# Altium footprint library 71-5_90.PcbLib: 1 footprints
Each footprint in its own frame and in the unit in brackets; x right, y up, seen from the top. Pads: shape width x height; smd on the part's side, far side on the other; paste and mask are expansions set on the pad; w line width, h text height; cw(c..) or ccw(c..) is an arc to the next point about the centre after c.
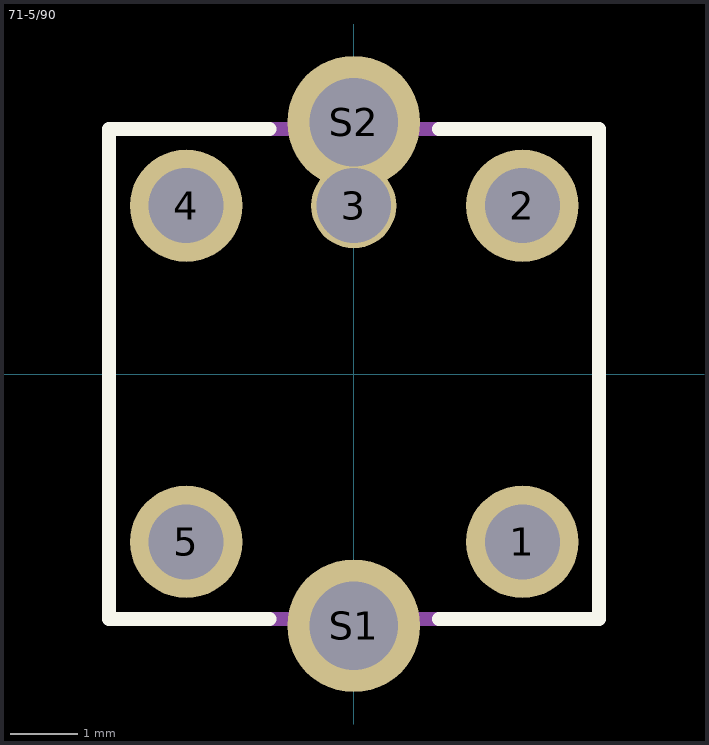
[diagram p0: the footprint, top view; thin cyan lines are the x and y axes]

## 71-5/90 [mil]
pads (7):
  round 66 hole 44: 1(99,-98.43) 2(99,99) 4(-98.43,99) 5(-98.43,-98.43)
  round 50 hole 44: 3(0,99)
  round 78 hole 52: S1(0,-147.64) S2(0,148)
Top Overlay:
  lines w8: -49.21,-143.7 -143.7,-143.7 -143.7,144 -49.21,144 ; 50,-143.7 144,-143.7 144,144 50,144
Mechanical 16:
  lines w8: -55.12,-143.7 56,-143.7 ; -55.12,144 56,144